# EAGLE library part MICRO_SD-SPI (library glacsweb)
Micro SD Socket configured for SPI.
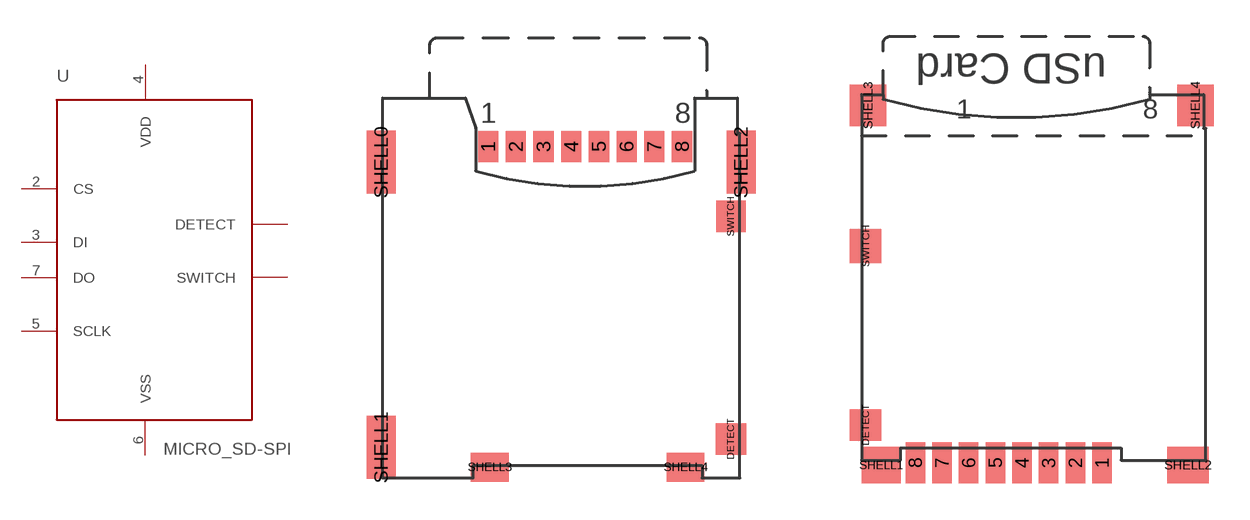
[diagram p8: symbol with the pads of MICRO_SD-MOLEX_503182-0853; footprints MICRO_SD-MOLEX_503182-0853, MICRO_SD-MOLEX_502774-0891]

Designator prefix -

## MICRO_SD-SPI-MOLEX_503182-0853 (MANUFACTURER: Molex; MPN: 503182-0853; OC_FARNELL: 2064061; PACKAGE: Pins in Entry)  [MICRO_SD-MOLEX_503182-0853]
2  CS
3  DI
4  VDD  pwr
5  SCLK
6  VSS  pwr
7  DO
DETECT  DETECT
SWITCH  SWITCH

## MICRO_SD-SPI-MOLEX_502774-0891 (MANUFACTURER: Molex; MPN: 502774-0891; OC_FARNELL: 2064063; PACKAGE: Pins at end)  [MICRO_SD-MOLEX_502774-0891]
Pads as for MICRO_SD-MOLEX_503182-0853

## MICRO_SD-SPI-KYOCERA_045138008100858 (MANUFACTURER: Kyocera; MPN: 045138008100858; OC_FARNELL: 2134442)  [KYOCERA-045138008100858]
2  CS
3  DI
4  VDD  pwr
5  SCLK
6  VSS  pwr
7  DO
CD  DETECT
COM  SWITCH

## Footprint MICRO_SD-MOLEX_503182-0853 (pad centres in mm)
Created from drawings at: http://www.molex.com/pdm_docs/sd/5031820853_sd.pdf
smd 0.8 x 1.24: 1 0.4,-0.625; 2 1.5,-0.625; 3 2.6,-0.625; 4 3.7,-0.625; 5 4.8,-0.625; 6 5.9,-0.625; 7 7,-0.625; 8 8.1,-0.625
smd 1.2 x 1.25: DETECT 10.045,-12.25
smd 1.15 x 2.5: SHELL0 -3.845,-1.25; SHELL1 -3.845,-12.58; SHELL2 10.445,-1.25
smd 1.5 x 1.15: SHELL3 0.46,-13.375; SHELL4 8.24,-13.375
smd 1.16 x 1.25: SWITCH 10.045,-3.4

## Footprint MICRO_SD-MOLEX_502774-0891 (pad centres in mm)
smd 0.8 x 1.68: 1 9.11,0.09; 2 8.01,0.09; 3 6.91,0.09; 4 5.81,0.09; 5 4.71,0.09; 6 3.61,0.09; 7 2.51,0.09; 8 1.41,0.09
smd 1.29 x 1.3: DETECT -0.645,1.65
smd 1.6 x 1.5: SHELL1 0,0
smd 1.7 x 1.5: SHELL2 12.66,0
smd 1.5 x 1.7: SHELL3 -0.54,14.85; SHELL4 12.96,14.85
smd 1.29 x 1.4: SWITCH -0.645,9.05

## Footprint KYOCERA-045138008100858 (pad centres in mm)
smd 0.8 x 1.5: 1 8.8,0; 2 7.7,0; 3 6.6,0; 4 5.5,0; 5 4.4,0; 6 3.3,0; 7 2.2,0; 8 1.1,0; COM 0,0
smd 1.7 x 1: CD 9.35,7.8
smd 1.3 x 3: SHELL1 -5.01,4.25; SHELL2 -5.01,12.75; SHELL3 9.55,12.75
smd 1.3 x 1.7: SHELL4 9.55,6.2